# Altium schematic symbol library resistance.SchLib: 2 symbols
Pins are listed as number, name and electrical type; pins without a type are passive.

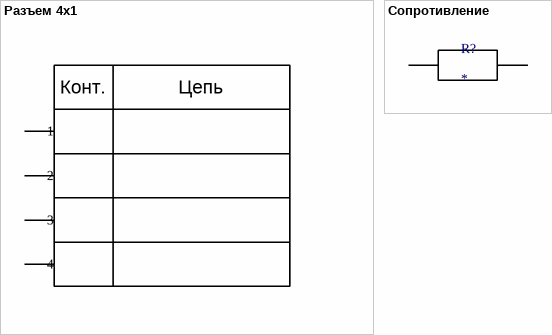
[diagram p0: symbols Разъем 4x1 to Сопротивление]

## Разъем 4x1
designator X?
Value: *; ComponentLink1Description: link; ComponentLink1URL: *
footprint YX-XH-4
pins: 1, 2, 3, 4
text: Конт.; Цепь

## Сопротивление
designator R?
Value: *; ComponentLink1Description: link; ComponentLink1URL: *
footprint R_0402 (Chip Resistor, 2-Leads, Body 1.00x0.50mm, IPC Medium Density)
pins: 0, 1